# Altium schematic symbol library SCH - PASSIVES - CAPACITOR.SCHLIB: 1 symbol
Pins are listed as number, name and electrical type; pins without a type are passive.

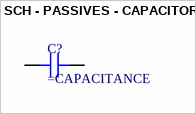
[diagram p0: symbol SCH - PASSIVES - CAPACITOR]

## SCH - PASSIVES - CAPACITOR
designator C?
SMT Capacitor
pins: 1, 2